# EAGLE library part LTC1042 (library opamps)
LTC1042: Window comparator (Linear Technology) +15V, 300pA bias 3mV offset, 5Hz sampling
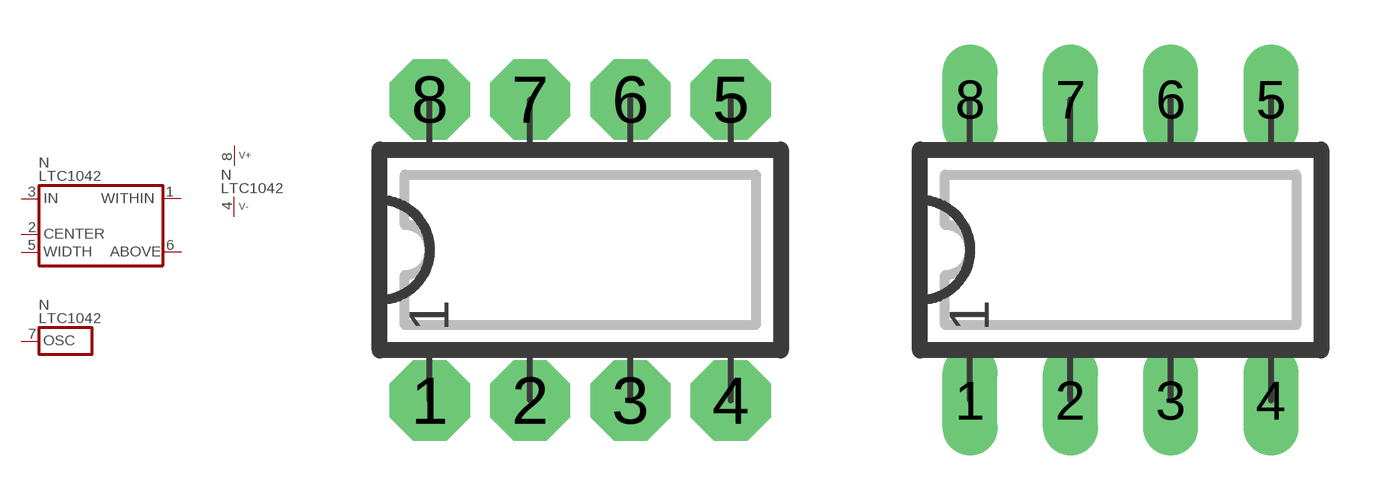
[diagram p211: symbol with the pads of DIP08N; footprints DIP08N, DIP08L]

Designator prefix N; gates A=LTC1042 O=LTC1042A P=V+-

## LTC1042N  [DIP08N]
1  A:WITHIN  out
2  A:CENTER  in
3  A:IN  in
4  P:V-  pwr
5  A:WIDTH  in
6  A:ABOVE  out
7  O:OSC  in
8  P:V+  pwr

## LTC1042L  [DIP08L]
Pads as for DIP08N

## LTC1042  [DIP08L]
Pads as for DIP08N

## LTC1042R  [DIP08R]
Pads as for DIP08N

## Footprint DIP08N (pad centres in mm)
DIP-8 Standard IC package, 8 pins
drill 0.813 pad 2.032 octagon: 1 -3.81,-3.81; 2 -1.27,-3.81; 3 1.27,-3.81; 4 3.81,-3.81; 5 3.81,3.81; 6 1.27,3.81; 7 -1.27,3.81; 8 -3.81,3.81

## Footprint DIP08L (pad centres in mm)
DIP-8, long pads Standard IC package, 8 pins
drill 0.813 pad 1.397 long: 1 -3.81,-3.81; 2 -1.27,-3.81; 3 1.27,-3.81; 4 3.81,-3.81; 5 3.81,3.81; 6 1.27,3.81; 7 -1.27,3.81; 8 -3.81,3.81

## Footprint DIP08R (pad centres in mm)
DIP-8, reduced pads Standard IC package, 8 pins
drill 0.813 pad 1.397 square: 1 -3.81,-3.81; 2 -1.27,-3.81; 3 1.27,-3.81; 4 3.81,-3.81; 5 3.81,3.81; 6 1.27,3.81; 7 -1.27,3.81; 8 -3.81,3.81